# Altium schematic symbol library Test_Point.SchLib: 1 symbol
Pins are listed as number, name and electrical type; pins without a type are passive.

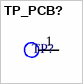
[diagram p0: symbol TP_PCB?]

## TP_PCB?
designator TP?, comment Test_Point_PCB  (value not drawn)
Test_Point
footprint Test_Point
footprint TEST_POINT_CONN
pins: 1 G9